# Altium footprint library Supernova Power.PcbLib: 51 footprints (part 1 of 4)
Each footprint in its own frame and in the unit in brackets; x right, y up, seen from the top. Pads: shape width x height; smd on the part's side, far side on the other; paste and mask are expansions set on the pad; w line width, h text height; cw(c..) or ccw(c..) is an arc to the next point about the centre after c.
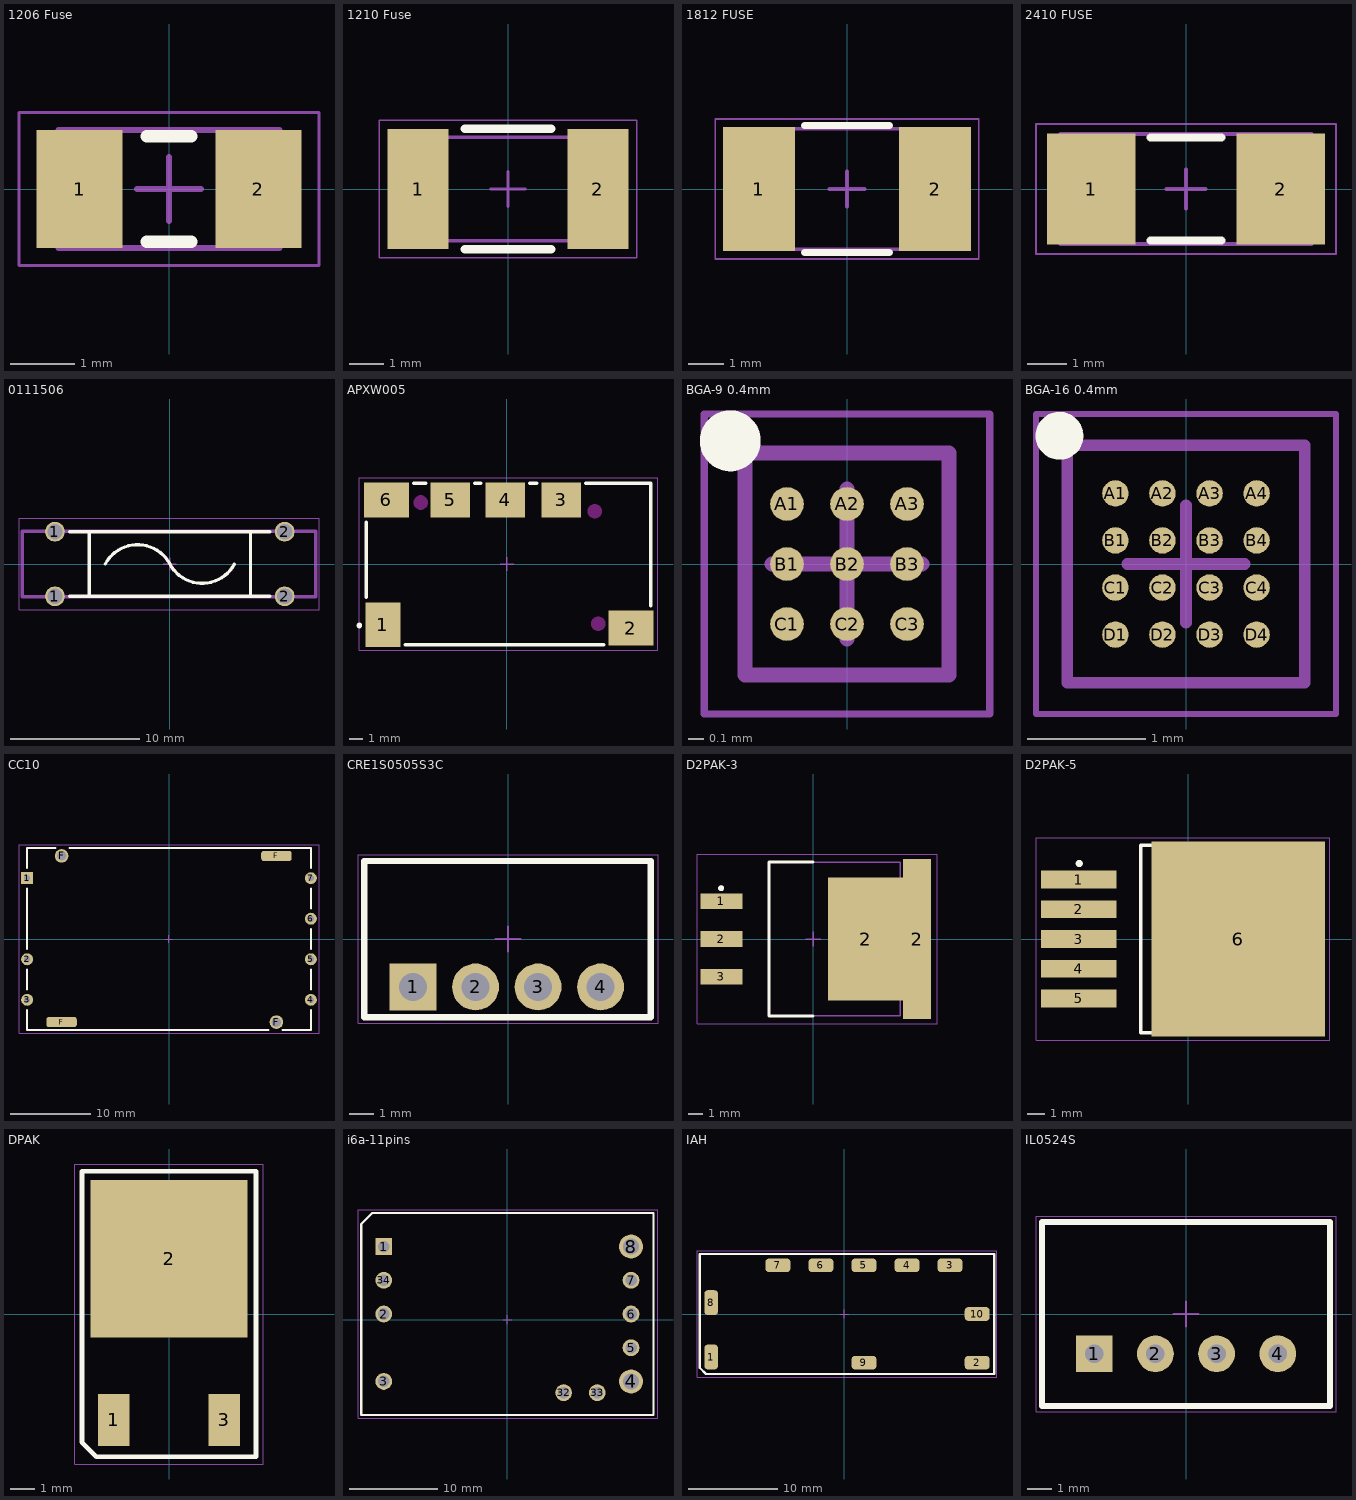
[diagram p0: the footprints below, top view; thin cyan lines are the x and y axes]

## 1206 Fuse [mm] "Chip Resistor, 2-Leads, Body 3.20x1.60mm, IPC Medium Density"
height 0.9
pads (2):
  rect 1.35x1.85 smd: 1(-1.4,0) 2(1.4,0)
Top Overlay:
  lines w0.2: -0.35,-0.825 0.35,-0.825 ; -0.35,0.825 0.35,0.825
Top 3D Body (Mech13):
  lines w0.1: -1.725,-0.925 1.725,-0.925 1.725,0.925 -1.725,0.925 -1.725,-0.925
Top Courtyard:
  lines w0.05: -2.35,-1.2 2.35,-1.2 2.35,1.2 -2.35,1.2 -2.35,-1.2
  lines w0.1: -0.5,0 0.5,0 ; 0,-0.5 0,0.5
3D body: height 0.9, standoff 0, extent 1.225,-0.925 1.725,0.925
3D body: height 0.9, standoff 0, extent -1.725,-0.925 -1.225,0.925
3D body: height 0.9, standoff 0, extent -1.225,-0.925 1.225,0.925

## 1210 Fuse [mm] "Chip Resistor, 2-Leads, Body 3.20x1.60mm, IPC Medium Density"
height 0.9
pads (2):
  rect 1.78x3.5 smd: 1(-2.615,0) 2(2.615,0)
Top Overlay:
  lines w0.254: -1.25,-1.75 1.25,-1.75 ; -1.25,1.75 1.25,1.75
Top 3D Body (Mech13):
  lines w0.1: -2.25,-1.5 -2.25,1.5 2.25,1.5 2.25,-1.5 -2.25,-1.5
Top Courtyard:
  lines w0.05: -3.75,-2 -3.75,2 3.75,2 3.75,-2 -3.75,-2
  lines w0.1: -0.5,0 0.5,0 ; 0,-0.5 0,0.5
3D body: height 0.5, standoff 0.4, extent -1.75,-1.5 1.75,1.5
3D body: height 0.5, standoff 0, extent -2.25,-1.5 -1.75,1.5
3D body: height 0.5, standoff 0, extent 1.75,-1.5 2.25,1.5
3D body: height 0.4, standoff 0, extent -1.75,-1.5 1.75,1.5

## 1812 FUSE [mm] "Chip"
height 0.6
pads (2):
  rect 2.03x3.5 smd: 1(-2.49,0) 2(2.49,0)
Top Overlay:
  lines w0.2: -1.2,-1.8 1.2,-1.8 ; -1.2,1.8 1.2,1.8
Top 3D Body (Mech13):
  lines w0.1: -2.4,-1.7 -2.4,1.7 2.4,1.7 2.4,-1.7 -2.4,-1.7
Top Courtyard:
  lines w0.05: -3.725,-1.975 -3.725,1.975 3.725,1.975 3.725,-1.975 -3.725,-1.975
  lines w0.1: -0.5,0 0.5,0 ; 0,-0.5 0,0.5
3D body: height 0.65, standoff 0.5, extent -1.538,-1.7 1.537,1.7
3D body: height 0.65, standoff 0, extent -2.412,-1.7 -1.538,1.7
3D body: height 0.65, standoff 0, extent 1.537,-1.7 2.412,1.7
3D body: height 0.5, standoff 0, extent -1.538,-1.7 1.537,1.7

## 2410 FUSE [mm] "Chip Resistor, 2-Leads, Body 6.10x2.54mm, IPC Medium Density"
height 2.79
pads (2):
  rect 2.25x2.8 smd paste-0.25: 1(-2.4,0) 2(2.4,0)
Top Overlay:
  lines w0.2: -0.9,-1.3 0.9,-1.3 ; -0.9,1.3 0.9,1.3
Top 3D Body (Mech13):
  lines w0.1: -3.175,-1.395 3.175,-1.395 3.175,1.395 -3.175,1.395 -3.175,-1.395
Top Courtyard:
  lines w0.05: -3.8,-1.65 3.8,-1.65 3.8,1.65 -3.8,1.65 -3.8,-1.65
  lines w0.1: -0.5,0 0.5,0 ; 0,-0.5 0,0.5
3D body: height 2.79, standoff 0, extent 1.675,-1.395 3.175,1.395
3D body: height 2.79, standoff 0, extent -3.175,-1.395 -1.675,1.395
3D body: height 2.59, standoff 0.2, extent -1.675,-1.2 1.675,1.2

## 0111506 [mm]
pads (4):
  round 1.524 hole 1.17: 1(-8.9,-2.5) 1(-8.9,2.5) 2(8.9,-2.5) 2(8.9,2.5)
Top Overlay:
  lines w0.254: -7.75,-2.5 7.75,-2.5 ; -7.75,2.5 7.75,2.5 ; -6.25,-2.5 -6.25,2.5 ; -5,0 cw(c-2.5,-1.333) 0,0 ccw(c2.5,1.333) 5,0 ; 6.25,-2.5 6.25,2.5
Top 3D Body (Mech13):
  lines w0.254: -11.43,-2.54 -11.43,2.54 11.303,2.54 11.303,-2.54 -11.43,-2.54
Top Courtyard:
  lines w0.05: -11.684,-3.556 -11.684,3.556 11.557,3.556 11.557,-3.556 -11.684,-3.556
  lines w0.1: -0.5,0 0.5,0 ; 0,-0.5 0,0.5
3D body "keystone-PN3521.STEP": height 7.88, standoff -3.26, extent -11.354,-2.493 -6.35,2.493
3D body "keystone-PN3521.STEP": height 7.88, standoff -3.26, extent 6.35,-2.493 11.354,2.493
3D body: height 7.96, standoff 2.96, extent -10,-2.5 10,2.5

## APXW005 [mm]
height 8.5
pads (6):
  rect 2.53x3.24 smd paste-0.25: 1(-8.965,-4.395)
  rect 3.24x2.53 smd paste-0.25: 2(8.965,-4.645) 6(-8.715,4.645)
  rect 2.84x2.53 smd paste-0.25: 3(3.935,4.645) 4(-0.125,4.645) 5(-4.093,4.645)
Top Layer keep-out:
  region: 6.097,-4.315 6.097,-4.416 6.174,-4.603 6.317,-4.746 6.504,-4.823 6.605,-4.823 6.706,-4.823 6.893,-4.746 7.036,-4.603 7.113,-4.416 7.113,-4.315 7.113,-4.214 7.036,-4.027 6.893,-3.884 6.706,-3.807 6.605,-3.807 6.504,-3.807 6.317,-3.884 6.174,-4.027 6.097,-4.214
  region: -6.225,3.937 -6.326,3.937 -6.513,4.014 -6.656,4.157 -6.733,4.344 -6.733,4.445 -6.733,4.546 -6.656,4.733 -6.513,4.876 -6.326,4.953 -6.225,4.953 -6.124,4.953 -5.937,4.876 -5.794,4.733 -5.717,4.546 -5.717,4.445 -5.717,4.344 -5.794,4.157 -5.937,4.014 -6.124,3.937
  region: 5.837,3.815 5.837,3.714 5.914,3.527 6.057,3.384 6.244,3.307 6.345,3.307 6.446,3.307 6.633,3.384 6.776,3.527 6.853,3.714 6.853,3.815 6.853,3.916 6.776,4.103 6.633,4.246 6.446,4.323 6.345,4.323 6.244,4.323 6.057,4.246 5.914,4.103 5.837,3.916
Top Overlay:
  circle w0.203: c-10.668,-4.445 r0.102
  lines w0.254: -10.162,-2.413 -10.162,3.023 ; -7.343,-5.842 6.983,-5.842 ; -6.733,5.842 -5.869,5.842 ; -2.313,5.842 -1.907,5.842 ; 1.649,5.842 2.157,5.842 ; 5.713,5.842 10.412,5.842 10.412,-3.023
Top Courtyard:
  lines w0.05: -10.668,-6.223 -10.668,6.223 10.922,6.223 10.922,-6.223 -10.668,-6.223
  lines w0.1: -0.5,0 0.5,0 ; 0,-0.5 0,0.5
3D body "APX5005.STEP": height 8.7, standoff 0, extent -10.035,-5.715 10.285,5.715

## BGA-9 0.4mm [mm] "BGA, 9-Leads, Body 1.36x1.48mmx0.68mm, Pitch 0.40mm"
height 0.68
pads (9):
  round 0.225 smd paste-0.02 mask+0.02: A1(-0.4,0.4) A2(0,0.4) A3(0.4,0.4) B1(-0.4,0) B2(0,0) B3(0.4,0) C1(-0.4,-0.4) C2(0,-0.4) C3(0.4,-0.4)
Top Overlay:
  circle w0.203: c-0.778,0.821 r0.102
Top 3D Body (Mech13):
  lines w0.1: -0.68,-0.74 0.68,-0.74 0.68,0.74 -0.68,0.74 -0.68,-0.74
Top Courtyard:
  lines w0.05: -0.95,-1 0.95,-1 0.95,1 -0.95,1 -0.95,-1
  lines w0.1: -0.5,0 0.5,0 ; 0,-0.5 0,0.5
3D body: height 0.68, standoff 0.17, extent -0.68,-0.74 0.68,0.74

## BGA-16 0.4mm [mm] "BGA, 16-Leads, Body 2.02x2.02mmx0.60mm, Pitch 0.40mm"
height 0.6
pads (16):
  round 0.225 smd paste-0.02 mask+0.02: A1(-0.6,0.6) A2(-0.2,0.6) A3(0.2,0.6) A4(0.6,0.6) B1(-0.6,0.2) B2(-0.2,0.2) B3(0.2,0.2) B4(0.6,0.2) C1(-0.6,-0.2) C2(-0.2,-0.2) C3(0.2,-0.2) C4(0.6,-0.2) D1(-0.6,-0.6) D2(-0.2,-0.6) D3(0.2,-0.6) D4(0.6,-0.6)
Top Overlay:
  circle w0.203: c-1.075,1.09 r0.102
Top 3D Body (Mech13):
  lines w0.1: -1.01,-1.01 -1.01,1.01 1.01,1.01 1.01,-1.01 -1.01,-1.01
Top Courtyard:
  lines w0.05: -1.275,-1.275 -1.275,1.275 1.275,1.275 1.275,-1.275 -1.275,-1.275
  lines w0.1: -0.5,0 0.5,0 ; 0,-0.5 0,0.5
3D body: height 0.6, standoff 0.17, extent -1.01,-1.01 1.01,1.01

## CC10 [mm]
pads (11):
  rect 1.5x1.5 hole 0.762: 1(-17.78,7.62)
  round 1.5 hole 0.762: 2(-17.78,-2.54) 3(-17.78,-7.62) 4(17.78,-7.62) 5(17.78,-2.54) 6(17.78,2.54) 7(17.78,7.62)
  rrect50% 3.81x1.27 smd: F(-13.462,-10.414) F(13.462,10.414)
  round 1.7 hole 1.2: F(-13.462,10.414) F(13.462,-10.414)
Top Overlay:
  lines w0.254: -17.78,-8.89 -17.78,-11.43 12.446,-11.43 ; -17.78,-6.35 -17.78,-3.81 ; -17.78,-1.27 -17.78,6.35 ; -17.78,8.89 -17.78,11.43 -14.224,11.43 ; -12.446,11.43 17.78,11.43 17.78,8.89 ; 14.224,-11.43 17.78,-11.43 17.78,-8.89 ; 17.78,-6.35 17.78,-3.81 ; 17.78,-1.27 17.78,1.27 ; 17.78,3.81 17.78,6.35
Top Courtyard:
  lines w0.05: -18.796,-11.811 18.796,-11.811 18.796,11.811 -18.796,11.811 -18.796,-11.811
  lines w0.1: -0.5,0 0.5,0 ; 0,-0.5 0,0.5
3D body: height 8.5, standoff 0, extent -17.78,-11.43 17.78,11.43
3D body: height 0, standoff -3, extent -13.84,10.034 -13.081,10.794
3D body: height 0, standoff -3, extent 13.084,-10.794 13.843,-10.034
3D body: height 0, standoff -3, extent -18.032,7.367 -17.526,7.874
3D body: height 0, standoff -3, extent -18.032,-2.793 -17.526,-2.286
3D body: height 0, standoff -3, extent -18.032,-7.873 -17.526,-7.366
3D body: height 0, standoff -3, extent 17.528,-7.873 18.034,-7.366
3D body: height 0, standoff -3, extent 17.528,-2.793 18.034,-2.286
3D body: height 0, standoff -3, extent 17.528,2.287 18.034,2.794
3D body: height 0, standoff -3, extent 17.528,7.367 18.034,7.874

## CRE1S0505S3C [mm]
pads (4):
  rect 1.905x1.905 hole 1.143: 1(-3.86,-1.95)
  round 1.905 hole 1.143: 2(-1.32,-1.95) 3(1.22,-1.95) 4(3.76,-1.95)
Top Overlay:
  lines w0.254: -5.842,-3.175 5.8,-3.175 5.8,3.175 -5.842,3.175 -5.842,-3.175
Top Courtyard:
  lines w0.05: -6.096,-3.429 6.096,-3.429 6.096,3.429 -6.096,3.429 -6.096,-3.429
  lines w0.1: -0.5,0 0.5,0 ; 0,-0.5 0,0.5
3D body: height 0, standoff -3, extent -4.238,-2.33 -3.479,-1.57
3D body: height 0, standoff -3, extent -1.698,-2.33 -0.939,-1.57
3D body: height 0, standoff -3, extent 0.842,-2.33 1.601,-1.57
3D body: height 0, standoff -3, extent 3.382,-2.33 4.141,-1.57
3D body: height 7.46, standoff 0, extent -5.75,-3.075 5.75,3.025

## D2PAK-3 [mm]
height 4.69
pads (5):
  rect 2.85x1.05 smd: 1(-6.2,2.54) 2(-6.2,0) 3(-6.2,-2.54)
  rect 5.08x8.33 smd: 2(3.545,0)
  rect 1.91x10.8 smd: 2(7.015,0)
Top Overlay:
  circle w0.203: c-6.223,3.429 r0.102
  lines w0.2: 0,-5.2 -3,-5.2 -3,5.2 0,5.2
Top 3D Body (Mech13):
  lines w0.1: -3,-5.2 5.89,-5.2 5.89,5.2 -3,5.2 -3,-5.2
Top Courtyard:
  lines w0.05: -7.85,-5.715 8.382,-5.715 8.382,5.715 -7.85,5.715 -7.85,-5.715
  lines w0.1: -0.5,0 0.5,0 ; 0,-0.5 0,0.5
3D body: height 1, standoff 0, extent -6.95,-2.84 -0.2,-2.24
3D body: height 1, standoff 0, extent -6.95,-0.3 -0.2,0.3
3D body: height 1, standoff 0, extent -6.95,2.24 -0.2,2.84
3D body: height 4.69, standoff 0, extent -3,-5.2 5.89,5.2
3D body: height 1, standoff 0, extent 0.25,-5.2 7.3,5.2

## D2PAK-5 [mm] "D2-PAK, 6-Pads, Body 7.68x8.69mm (max), IPC Medium Density"
height 4.6
pads (6):
  rect 4.32x1.02 smd: 1(-6.25,3.4) 2(-6.25,1.7) 3(-6.25,0) 4(-6.25,-1.7) 5(-6.25,-3.4)
  rect 9.91x11.18 smd: 6(2.875,0)
Top Overlay:
  circle w0.203: c-6.223,4.318 r0.102
  lines w0.2: -1.2,-5.35 -2.7,-5.35 -2.7,5.35 -1.2,5.35
Top 3D Body (Mech13):
  lines w0.1: -2.7,-5.325 -2.7,5.325 6.47,5.325 6.47,-5.325 -2.7,-5.325
Top Courtyard:
  lines w0.05: -8.7,-5.8 -8.7,5.8 8.1,5.8 8.1,-5.8 -8.7,-5.8
  lines w0.1: -0.5,0 0.5,0 ; 0,-0.5 0,0.5
3D body: height 1, standoff 0, extent 0.25,-4.5 7.3,4.5
3D body: height 1, standoff 0, extent -7,-3.7 -0.25,-3.1
3D body: height 1, standoff 0, extent -7,-2 -0.25,-1.4
3D body: height 1, standoff 0, extent -7,-0.3 -0.25,0.3
3D body: height 1, standoff 0, extent -7,1.4 -0.25,2
3D body: height 1, standoff 0, extent -7,3.1 -0.25,3.7
3D body: height 4.6, standoff 0, extent -2.7,-5.325 6.47,5.325

## DPAK [mm] "D2-PAK/TO-263-AB; 3 Leads (1 Cropped); Body 15.5 (inc. leads) x 10.5 mm (LxW max)"
height 4.69
pads (3):
  rect 1.3x2.15 smd: 1(-2.29,-4.38) 3(2.29,-4.38)
  rect 6.5x6.5 smd: 2(0,2.285)
Top Overlay:
  lines w0.2: -3.6,-5.3 -3,-5.9 3.6,-5.9 3.6,5.9 -3.6,5.9 -3.6,-5.3
Top Courtyard:
  lines w0.05: -3.9,-6.2 -3.9,6.2 3.9,6.2 3.9,-6.2 -3.9,-6.2
  lines w0.1: -0.5,0 0.5,0 ; 0,-0.5 0,0.5
3D body "DPAK_TO-252AA.step": height 2.37, standoff -0.03, extent -3.367,-5.082 3.367,5.018

## i6a-11pins [mm] "DC-DC Converter"
pads (11):
  rect 1.9x1.9 hole 1.3: 1(-13.97,8.255)
  round 1.9 hole 1.3: 2(-13.97,0.635) 3(-13.97,-6.985) 5(13.97,-3.175) 6(13.97,0.635) 7(13.97,4.445) 32(6.35,-8.255) 33(10.16,-8.255) 34(-13.97,4.445)
  round 2.7 hole 1.8: 4(13.97,-6.985) 8(13.97,8.255)
Top Overlay:
  lines w0.254: -16.51,-10.795 16.51,-10.795 16.51,12.065 -15.24,12.065 -16.51,10.795 -16.51,-10.795
Top Courtyard:
  lines w0.05: -16.891,-11.176 -16.891,12.446 17.018,12.446 17.018,-11.176 -16.891,-11.176
  lines w0.1: -0.5,0 0.5,0 ; 0,-0.5 0,0.5
3D body "i6a_fullfeature_asm.STEP": height 11.98, standoff -3.7, extent -16.51,-10.839 16.539,12.065

## IAH [mil]
pads (10):
  rrect50% 60x110 smd: 1(-587.5,-190) 8(-587.5,50)
  rrect50% 110x60 smd: 2(587.5,-215) 3(467.5,215) 4(277.5,215) 5(87.5,215) 6(-102.5,215) 7(-292.5,215) 9(87.5,-215) 10(587.5,0)
Top Overlay:
  lines w10: -637.5,-237.58 -610.08,-265 662.5,-265 662.5,265 -637.5,265 -637.5,-237.58
Top Courtyard:
  lines w1.97: -650,-280 -650,280 675,280 675,-280 -650,-280
  lines w3.94: -19.69,0 19.68,0 ; 0,-19.68 0,19.68
3D body "iah_asm.STEP": height 415, standoff -1, extent -637.5,-270 662.5,270

## IL0524S [mil]
pads (4):
  rect 60x60 hole 30: 1(-150,-65)
  round 60 hole 30: 2(-50,-65) 3(50,-65) 4(150,-65)
Top Overlay:
  lines w10: -235,-150 235,-150 235,150 -235,150 -235,-150
Top Courtyard:
  lines w1.97: -245,-160 245,-160 245,160 -245,160 -245,-160
  lines w3.94: -19.69,0 19.68,0 ; 0,-19.68 0,19.68
3D body: height 400, standoff 0, extent -230,-145 230,145
3D body: height 0, standoff -118.11, extent 140.09,-74.97 160.01,-55.01
3D body: height 0, standoff -118.11, extent 40.09,-74.97 60.01,-55.01
3D body: height 0, standoff -118.11, extent -59.91,-74.97 -39.99,-55.01
3D body: height 0, standoff -118.11, extent -159.91,-74.97 -139.99,-55.01